# EAGLE library part TPS65987D (library borkedlabs-powerics)
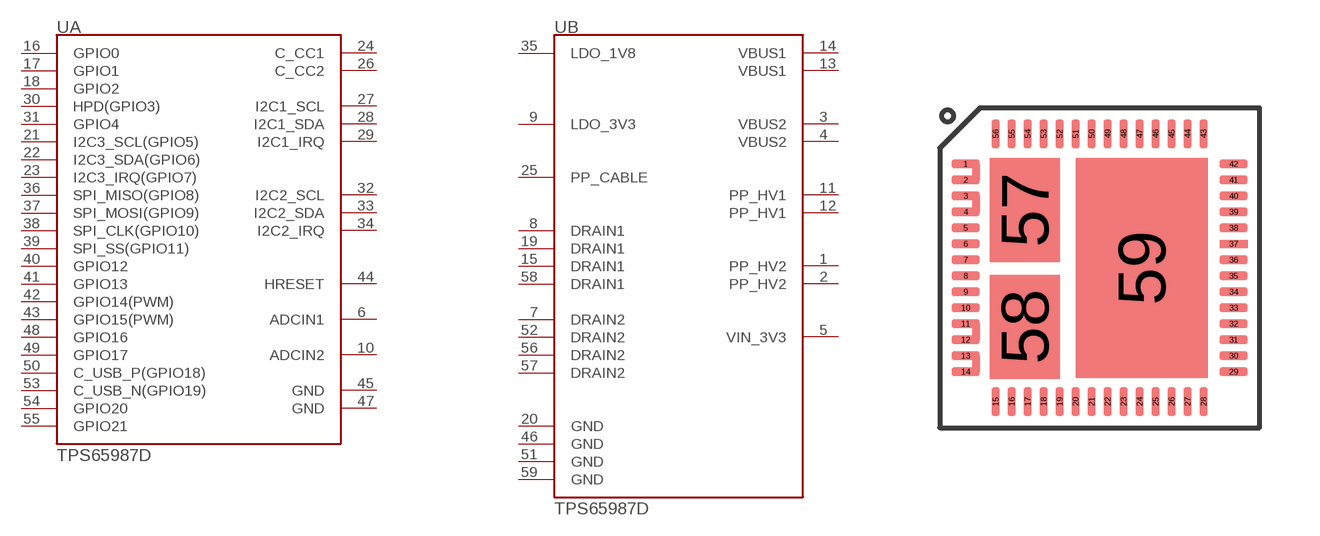
[diagram p20: symbol with the pads of QFN56-7X7-TI-RSH; footprint QFN56-7X7-TI-RSH]

Designator prefix U; gates B=TPS65987D-PWR A=TPS65987D-IO

## TPS65987DRSH (MPN: DDHRSHR; PACKAGE: QFN56)  [QFN56-7X7-TI-RSH]
1  B:PP_HV2
2  B:PP_HV2
3  B:VBUS2
4  B:VBUS2
5  B:VIN_3V3
6  A:ADCIN1
7  B:DRAIN2
8  B:DRAIN1
9  B:LDO_3V3
10  A:ADCIN2
11  B:PP_HV1
12  B:PP_HV1
13  B:VBUS1
14  B:VBUS1
15  B:DRAIN1
16  A:GPIO0
17  A:GPIO1
18  A:GPIO2
19  B:DRAIN1
20  B:GND
21  A:I2C3_SCL(GPIO5)
22  A:I2C3_SDA(GPIO6)
23  A:I2C3_IRQ(GPIO7)
24  A:C_CC1
25  B:PP_CABLE
26  A:C_CC2
27  A:I2C1_SCL
28  A:I2C1_SDA
29  A:I2C1_IRQ
30  A:HPD(GPIO3)
31  A:GPIO4
32  A:I2C2_SCL
33  A:I2C2_SDA
34  A:I2C2_IRQ
35  B:LDO_1V8
36  A:SPI_MISO(GPIO8)
37  A:SPI_MOSI(GPIO9)
38  A:SPI_CLK(GPIO10)
39  A:SPI_SS(GPIO11)
40  A:GPIO12
41  A:GPIO13
42  A:GPIO14(PWM)
43  A:GPIO15(PWM)
44  A:HRESET
45  A:GND
46  B:GND
47  A:GND
48  A:GPIO16
49  A:GPIO17
50  A:C_USB_P(GPIO18)
51  B:GND
52  B:DRAIN2
53  A:C_USB_N(GPIO19)
54  A:GPIO20
55  A:GPIO21
56  B:DRAIN2
57  B:DRAIN2
58  B:DRAIN1
59  B:GND

## Footprint QFN56-7X7-TI-RSH (pad centres in mm)
TI RSH56 package
smd 0.7 x 0.2: 1 -3.35,2.6; 2 -3.35,2.2; 3 -3.35,1.8; 4 -3.35,1.4; 5 -3.35,1; 6 -3.35,0.6; 7 -3.35,0.2; 8 -3.35,-0.2; 9 -3.35,-0.6; 10 -3.35,-1; 11 -3.35,-1.4; 12 -3.35,-1.8; 13 -3.35,-2.2; 14 -3.35,-2.6; 29 3.35,-2.6; 30 3.35,-2.2; 31 3.35,-1.8; 32 3.35,-1.4; 33 3.35,-1; 34 3.35,-0.6; 35 3.35,-0.2; 36 3.35,0.2; 37 3.35,0.6; 38 3.35,1; 39 3.35,1.4; 40 3.35,1.8; 41 3.35,2.2; 42 3.35,2.6
smd 0.2 x 0.7: 15 -2.6,-3.35; 16 -2.2,-3.35; 17 -1.8,-3.35; 18 -1.4,-3.35; 19 -1,-3.35; 20 -0.6,-3.35; 21 -0.2,-3.35; 22 0.2,-3.35; 23 0.6,-3.35; 24 1,-3.35; 25 1.4,-3.35; 26 1.8,-3.35; 27 2.2,-3.35; 28 2.6,-3.35; 43 2.6,3.35; 44 2.2,3.35; 45 1.8,3.35; 46 1.4,3.35; 47 1,3.35; 48 0.6,3.35; 49 0.2,3.35; 50 -0.2,3.35; 51 -0.6,3.35; 52 -1,3.35; 53 -1.4,3.35; 54 -1.8,3.35; 55 -2.2,3.35; 56 -2.6,3.35
smd 1.75 x 2.6: 57 -1.875,1.45; 58 -1.875,-1.475
smd 3.3 x 5.5: 59 1.05,0